# EAGLE library part DG407DYZ (library Intersil_By_element14_Batch_1)
Single 16-Channel/Differential 8-Channel CMOS Analog Multiplexers
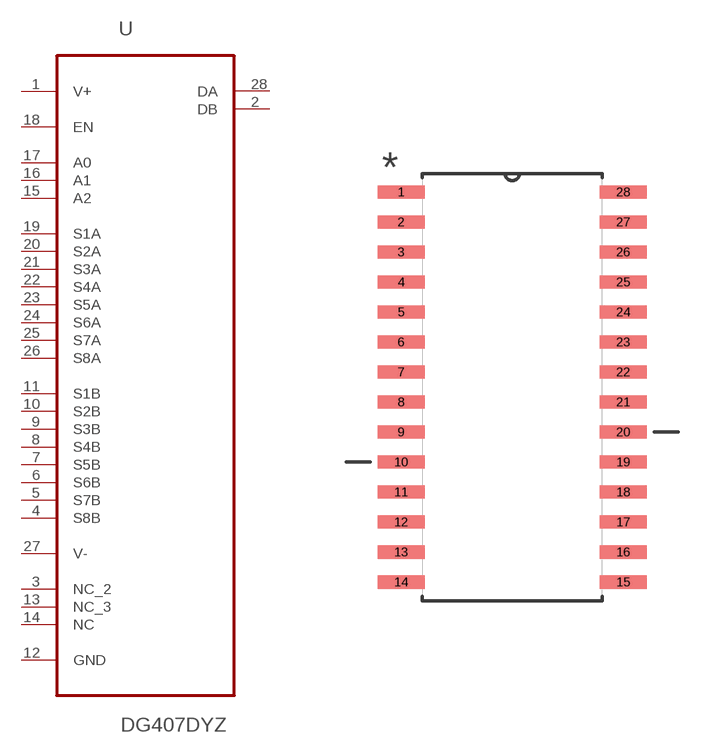
[diagram p30: symbol with the pads of SOIC127P1032X265-28N; footprint SOIC127P1032X265-28N]

Designator prefix U

## DG407DYZ (MPN: DG407DYZ; OC_FARNELL: 1562043; OC_NEWARK: 61J5527; PACKAGE: 28-SOIC; SUPPLIER: INTERSIL)  [SOIC127P1032X265-28N]
1  V+  pwr
2  DB  out
3  NC_2  nc
4  S8B  in
5  S7B  in
6  S6B  in
7  S5B  in
8  S4B  in
9  S3B  in
10  S2B  in
11  S1B  in
12  GND  pas
13  NC_3  nc
14  NC  nc
15  A2  in
16  A1  in
17  A0  in
18  EN  in
19  S1A  in
20  S2A  in
21  S3A  in
22  S4A  in
23  S5A  in
24  S6A  in
25  S7A  in
26  S8A  in
27  V-  pwr
28  DA  out

## Footprint SOIC127P1032X265-28N (pad centres in mm)
smd 1.981 x 0.559: 1 -4.699,8.255; 2 -4.699,6.985; 3 -4.699,5.715; 4 -4.699,4.445; 5 -4.699,3.175; 6 -4.699,1.905; 7 -4.699,0.635; 8 -4.699,-0.635; 9 -4.699,-1.905; 10 -4.699,-3.175; 11 -4.699,-4.445; 12 -4.699,-5.715; 13 -4.699,-6.985; 14 -4.699,-8.255; 15 4.699,-8.255; 16 4.699,-6.985; 17 4.699,-5.715; 18 4.699,-4.445; 19 4.699,-3.175; 20 4.699,-1.905; 21 4.699,-0.635; 22 4.699,0.635; 23 4.699,1.905; 24 4.699,3.175; 25 4.699,4.445; 26 4.699,5.715; 27 4.699,6.985; 28 4.699,8.255